# EAGLE library part PCM1808 (library ICs)
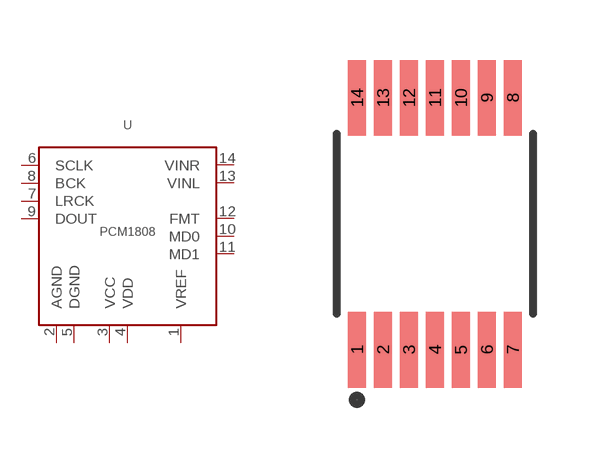
[diagram p47: symbol with the pads of TSSOP14; footprint TSSOP14]

Designator prefix U

## PCM1808 (MFG: Texas Instruments; MPN: PCM1808; VALUE: PCM1808)  [TSSOP14]
1  VREF
2  AGND
3  VCC
4  VDD
5  DGND
6  SCLK
7  LRCK
8  BCK
9  DOUT
10  MD0
11  MD1
12  FMT
13  VINL
14  VINR

## Footprint TSSOP14 (pad centres in mm)
14-Lead Plastic Thin Shrink Small Outline (ST) - 4.4 mm Body TSSOP
smd 0.45 x 1.9: 1 -1.95,-3.15; 2 -1.3,-3.15; 3 -0.65,-3.15; 4 0,-3.15; 5 0.65,-3.15; 6 1.3,-3.15; 7 1.95,-3.15; 8 1.95,3.15; 9 1.3,3.15; 10 0.65,3.15; 11 0,3.15; 12 -0.65,3.15; 13 -1.3,3.15; 14 -1.95,3.15